# Altium footprint library PCB库2.PcbLib: 108 footprints (part 3 of 7)
Each footprint in its own frame and in the unit in brackets; x right, y up, seen from the top. Pads: shape width x height; smd on the part's side, far side on the other; paste and mask are expansions set on the pad; w line width, h text height; cw(c..) or ccw(c..) is an arc to the next point about the centre after c.
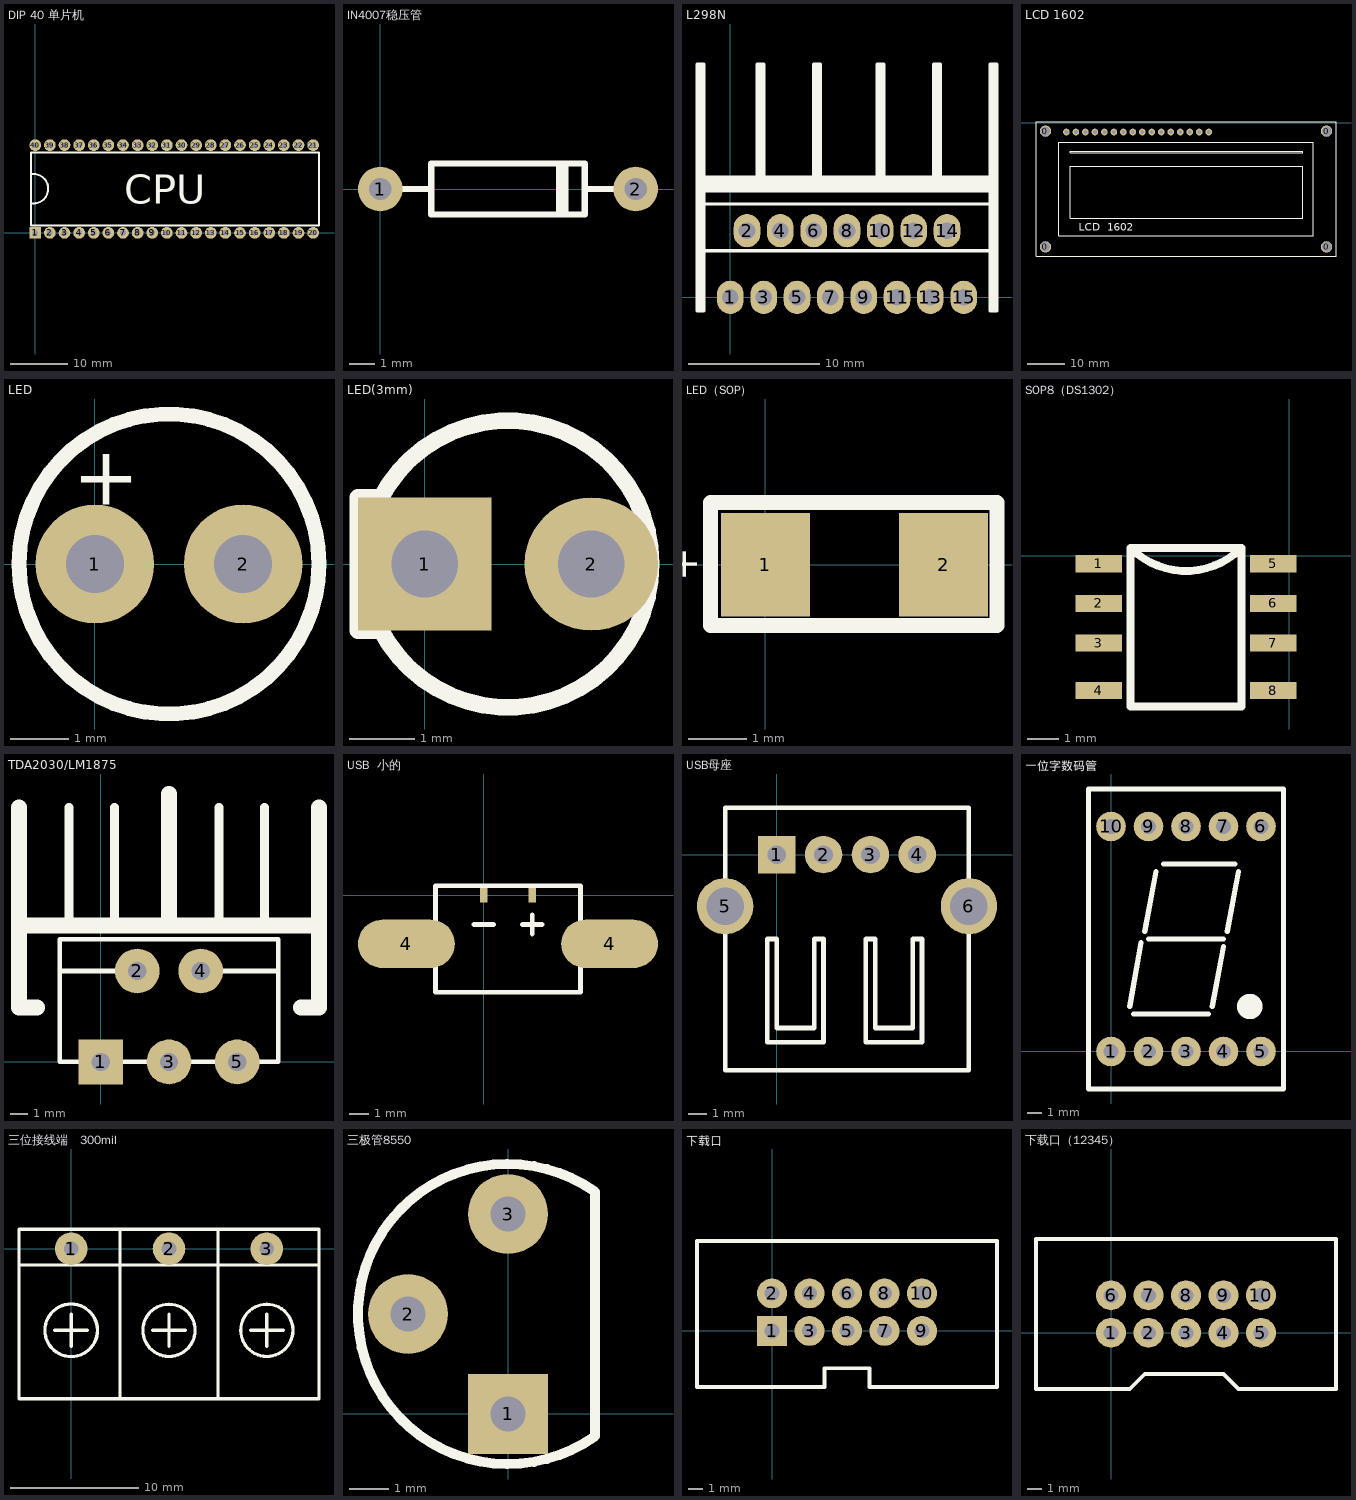
[diagram p2: the footprints below, top view; thin cyan lines are the x and y axes]

## DIP 40 单片机 [mil]
pads (40):
  rect 80x80 hole 39.37: 1(0,0)
  round 80 hole 39: 2(100,0) 3(200,0) 4(300,0) 5(400,0) 6(500,0) 7(600,0) 8(700,0) 9(800,0) 10(900,0) 11(1000,0) 12(1100,0) 13(1200,0) 14(1300,0) 15(1400,0) 16(1500,0) 17(1600,0) 18(1700,0) 19(1800,0) 20(1900,0) 21(1900,600) 22(1800,600) 23(1700,600) 24(1600,600) 25(1500,600) 26(1400,600) 27(1300,600) 28(1200,600) 29(1100,600) 30(1000,600) 31(900,600) 32(800,600) 33(700,600) 34(600,600) 35(500,600) 36(400,600) 37(300,600) 38(200,600) 39(100,600) 40(0,600)
Top Overlay:
  lines w13.78: -30.72,203.74 ccw(c-11.11,301.8) -30,400 ; -30,50 -30,550 1940,550 1940,50 -30,50
  text "CPU" at 610,200 h200

## IN4007稳压管 [mil]
pads (2):
  round 70 hole 35: 1(0,0) 2(400,0)
Top Overlay:
  lines w10: 0,0 80,0 ; 280,-40 280,40 ; 290,-40 290,40 ; 320,0 400,0 ; 80,0 80,40 320,40 320,-40 80,-40 80,0

## L298N [mil]
pads (15):
  oval 80x100 hole 50: 1(0,0) 2(50,200) 3(100,0) 4(150,200) 5(200,0) 6(250,200) 7(300,0) 8(350,200) 9(400,0) 10(450,200) 11(500,0) 12(550,200) 13(600,0) 14(650,200) 15(700,0)
Top Overlay:
  rectangle: -100,-40 -80,700
  rectangle: 780,-40 800,700
  rectangle: 80,320 100,700
  rectangle: 250,320 270,700
  rectangle: 440,320 460,700
  rectangle: 610,320 630,700
  rectangle: -90,320 800,360
  lines w10: -80,280 780,280 ; -80,140 -80,320 780,320 780,140 ; -80,140 780,140 ; -80,140 -80,-40 -100,-40 -100,700 -80,700 -80,360 80,360 80,700 100,700 100,360 250,360 250,700 270,700 270,360 440,360 440,700 460,700 460,360 610,360 610,700 630,700 630,360 780,360 780,700 800,700 800,-40 780,-40 780,140

## LCD 1602 [mil]
pads (20):
  round 120 hole 100: 0(280,-1310) 0(280,-90) 0(3240,-1310) 0(3240,-90)
  round 70 hole 40: 1(500,-100) 2(600,-100) 3(700,-100) 4(800,-100) 5(900,-100) 6(1000,-100) 7(1100,-100) 8(1200,-100) 9(1300,-100) 10(1400,-100) 11(1500,-100) 12(1600,-100) 13(1700,-100) 14(1800,-100) 15(1900,-100) 16(2000,-100)
Top Overlay:
  lines w7.87: 180,-1410 3340,-1410 3340,10 180,10 180,-1410 ; 420,-1190 3100,-1190 3100,-210 420,-210 420,-1190 ; 540,-1010 2990,-1010 2990,-460 540,-460 540,-1010 ; 540,-320 540,-300 2990,-300 2990,-320 540,-320
  text "LCD  1602" at 630,-1140 h80

## LED [mil]
pads (2):
  round 80 hole 39.37: 1(0,0) 2(100,0)
Top Overlay:
  circle w10: c50,0 r101.24
  text "+" at -15,40 h39.37

## LED(3mm) [mil]
pads (2):
  rect 80x80 hole 40: 1(0,0)
  round 80 hole 40: 2(100,0)
Top Overlay:
  circle w10: c50,0 r86.02
  lines w10: -30,-40 -40,-40 -40,40 -30,40

## LED（SOP) [mil]
pads (2):
  rect 60x70 all layers, no hole: 1(0,0) 2(120,0)
Top Overlay:
  lines w10: -37,-41 156,-41 156,42 -37,42 -37,-41
  text "+" at -46,-11 h20

## SOP8（DS1302） [mil]
pads (8):
  rect 59.06x21.65 smd: 1(-240,-10) 2(-240,-60) 3(-240,-110) 4(-240,-170) 5(-20,-10) 6(-20,-60) 7(-20,-110) 8(-20,-170)
Top Overlay:
  lines w10: -200,10 ccw(c-130,80) -60,10 ; -200,10 -200,-190 -60,-190 -60,10 ; -200,10 -60,10

## TDA2030/LM1875 [mm]
pads (5):
  rect 2.5x2.5 hole 1.016: 1(0,0)
  round 2.5 hole 1.016: 2(2.032,5.08) 3(3.81,0) 4(5.588,5.08) 5(7.62,0)
Top Overlay:
  lines w0.254: -2.286,5.08 1.27,5.08 ; 5.969,5.08 9.906,5.08 ; -2.286,0 9.906,0 9.906,6.858 -2.286,6.858 -2.286,0
  lines w0.508: -1.778,7.874 -1.778,14.224 ; 0.762,7.62 0.762,14.224 ; 6.604,7.62 6.604,14.224 ; 9.144,7.62 9.144,14.224
  lines w0.889: -4.572,7.62 12.192,7.62 ; -4.572,14.224 -4.572,3.048 -3.556,3.048 ; 3.81,7.62 3.81,14.986 ; 11.176,3.048 12.192,3.048 12.192,14.224

## USB  小的 [mil]
pads (4):
  rect 15x30 all layers, no hole: 1(100,0) 2(0,0)
  oval 200x100 all layers, no hole: 4(-160,-100) 4(260,-100)
Top Overlay:
  lines w10: -20,-60 0,-60 20,-60 ; 80,-60 120,-60 ; 100,-80 100,-40 ; -100,-200 200,-200 200,20 -100,20 -100,-200

## USB母座 [mil]
pads (6):
  rect 80x80 hole 40: 1(0,0)
  round 80 hole 40: 2(100,0) 3(200,0) 4(300,0)
  round 120 hole 80: 5(-110,-110) 6(410,-110)
Top Overlay:
  lines w10: -110,-460 410,-460 410,100 -110,100 -110,-460 ; -20,-400 100,-400 100,-180 80,-180 80,-370 0,-370 0,-180 -20,-180 -20,-400 ; 190,-400 310,-400 310,-190 310,-180 290,-180 290,-370 210,-370 210,-360 210,-180 190,-180 190,-190 190,-400

## 一位字数码管 [mm]
pads (10):
  round 2 hole 1: 1(0,0) 2(2.54,0) 3(5.08,0) 4(7.62,0) 5(10.16,0) 6(10.16,15.24) 7(7.62,15.24) 8(5.08,15.24) 9(2.54,15.24) 10(0,15.24)
Top Overlay:
  circle w1: c9.398,3.048 r0.359
  lines w0.35: 1.27,3.048 2.032,7.366 ; 1.524,2.54 6.604,2.54 ; 2.286,8.128 3.048,12.192 ; 2.54,7.62 7.62,7.62 ; 6.858,3.048 7.62,7.112 ; 7.874,8.128 8.636,12.192 ; -1.524,-2.54 11.684,-2.54 11.684,17.78 -1.524,17.78 -1.524,-2.54
  lines w0.354: 3.556,12.7 8.382,12.7

## 三位接线端   300mil [mil]
pads (3):
  round 100 hole 45: 1(0,0) 2(300,0) 3(600,0)
Top Overlay:
  circle w10: c600,-250 r80
  circle w10: c300,-250 r80
  circle w10: c0,-250 r80.62
  lines w10: -160,-50 760,-50 ; -50,-250 50,-250 ; 0,-300 0,-200 ; 150,-460 150,60 ; 250,-250 350,-250 ; 300,-300 300,-200 ; 450,-460 450,60 ; 550,-250 650,-250 ; 600,-300 600,-200 ; -160,-460 -160,60 760,60 760,-440 760,-460 -160,-460

## 三极管8550 [mil]
pads (3):
  rect 80x80 hole 35: 1(0,0)
  round 80 hole 35: 2(-100,100) 3(0,200)
Top Overlay:
  lines w10: 87,-21 87,221 ; 87.19,-22.06 cw(c0,100) 87.19,222.06

## 下载口 [mil]
pads (10):
  rect 80x80 hole 39.37: 1(0,0)
  round 80 hole 39: 2(0,100) 3(100,0) 4(100,100) 5(200,0) 6(200,100) 7(300,0) 8(300,100) 9(400,0) 10(400,100)
Top Overlay:
  lines w10: -200,-150 140,-150 140,-100 260,-100 260,-150 600,-150 600,240 -200,240 -200,-150

## 下载口（12345） [mil]
pads (10):
  round 80 hole 40: 1(0,0) 2(100,0) 3(200,0) 4(300,0) 5(400,0) 6(0,100) 7(100,100) 8(200,100) 9(300,100) 10(400,100)
Top Overlay:
  lines w10: -200,-150 -200,250 600,250 600,-150 340,-150 300,-110 90,-110 50,-150 -200,-150